# EAGLE library part PARTICLE-MESH (library LX_Eagle_Lib)
Particle Mesh Devices Layout for Argon, Boron, Xenon boards. Meets Adafruit Feather specification dimension & pins. Note this is a untested design
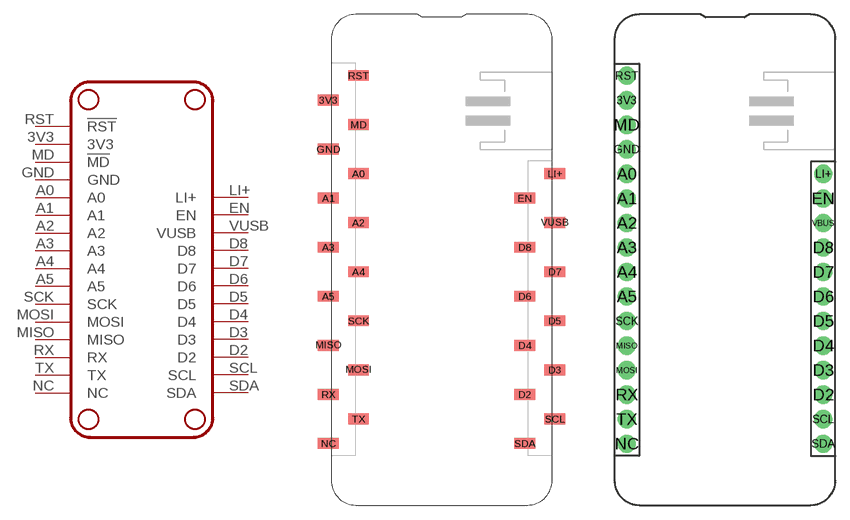
[diagram p9: symbol with the pads of PARTICLE-MESH_SMD; footprints PARTICLE-MESH_SMD, PARTICLE-MESH_TH]

Designator prefix U

## PARTICLE-MESH_SMD  [PARTICLE-MESH_SMD]
3V3  3V3
A0  A0
A1  A1
A2  A2
A3  A3
A4  A4
A5  A5
D2  D2
D3  D3
D4  D4
D5  D5
D6  D6
D7  D7
D8  D8
EN  EN
GND  GND
LI+  LI+
MD  !MD
MISO  MISO
MOSI  MOSI
NC  NC  nc
RST  !RST
RX  RX
SCK  SCK
SCL  SCL
SDA  SDA
TX  TX
VUSB  VUSB

## PARTICLE-MESH_TH  [PARTICLE-MESH_TH]
3V3  3V3
A0  A0
A1  A1
A2  A2
A3  A3
A4  A4
A5  A5
D2  D2
D3  D3
D4  D4
D5  D5
D6  D6
D7  D7
D8  D8
EN  EN
GND  GND
LI+  LI+
MD  !MD
MISO  MISO
MOSI  MOSI
NC  NC  nc
RST  !RST
RX  RX
SCK  SCK
SCL  SCL
SDA  SDA
TX  TX
VBUS  VUSB

## Footprint PARTICLE-MESH_SMD (pad centres in mm)
Generic right-angle SMD socket
smd 2.159 x 1.118: 3V3 -11.715,16.54; A0 -8.605,8.92; A1 -11.715,6.38; A2 -8.605,3.84; A3 -11.715,1.3; A4 -8.605,-1.24; A5 -11.715,-3.78; D2 8.605,-13.94; D3 11.715,-11.4; D4 8.605,-8.86; D5 11.715,-6.32; D6 8.605,-3.78; D7 11.715,-1.24; D8 8.605,1.3; EN 8.605,6.38; GND -11.715,11.46; LI+ 11.715,8.92; MD -8.605,14; MISO -11.715,-8.86; MOSI -8.605,-11.4; NC -11.715,-19.02; RST -8.605,19.08; RX -11.715,-13.94; SCK -8.605,-6.32; SCL 11.715,-16.48; SDA 8.605,-19.02; TX -8.605,-16.48; VUSB 11.715,3.84

## Footprint PARTICLE-MESH_TH (pad centres in mm)
Generic female through-hole sockets
drill 1.016 pad 1.88: 3V3 -10.16,16.51; A0 -10.16,8.89; A1 -10.16,6.35; A2 -10.16,3.81; A3 -10.16,1.27; A4 -10.16,-1.27; A5 -10.16,-3.81; D2 10.16,-13.97; D3 10.16,-11.43; D4 10.16,-8.89; D5 10.16,-6.35; D6 10.16,-3.81; D7 10.16,-1.27; D8 10.16,1.27; EN 10.16,6.35; GND -10.16,11.43; LI+ 10.16,8.89; MD -10.16,13.97; MISO -10.16,-8.89; MOSI -10.16,-11.43; NC -10.16,-19.05; RST -10.16,19.05; RX -10.16,-13.97; SCK -10.16,-6.35; SCL 10.16,-16.51; SDA 10.16,-19.05; TX -10.16,-16.51; VBUS 10.16,3.81